# Altium footprint library fuse.pcblib: 12 footprints
Each footprint in its own frame and in the unit in brackets; x right, y up, seen from the top. Pads: shape width x height; smd on the part's side, far side on the other; paste and mask are expansions set on the pad; w line width, h text height; cw(c..) or ccw(c..) is an arc to the next point about the centre after c.
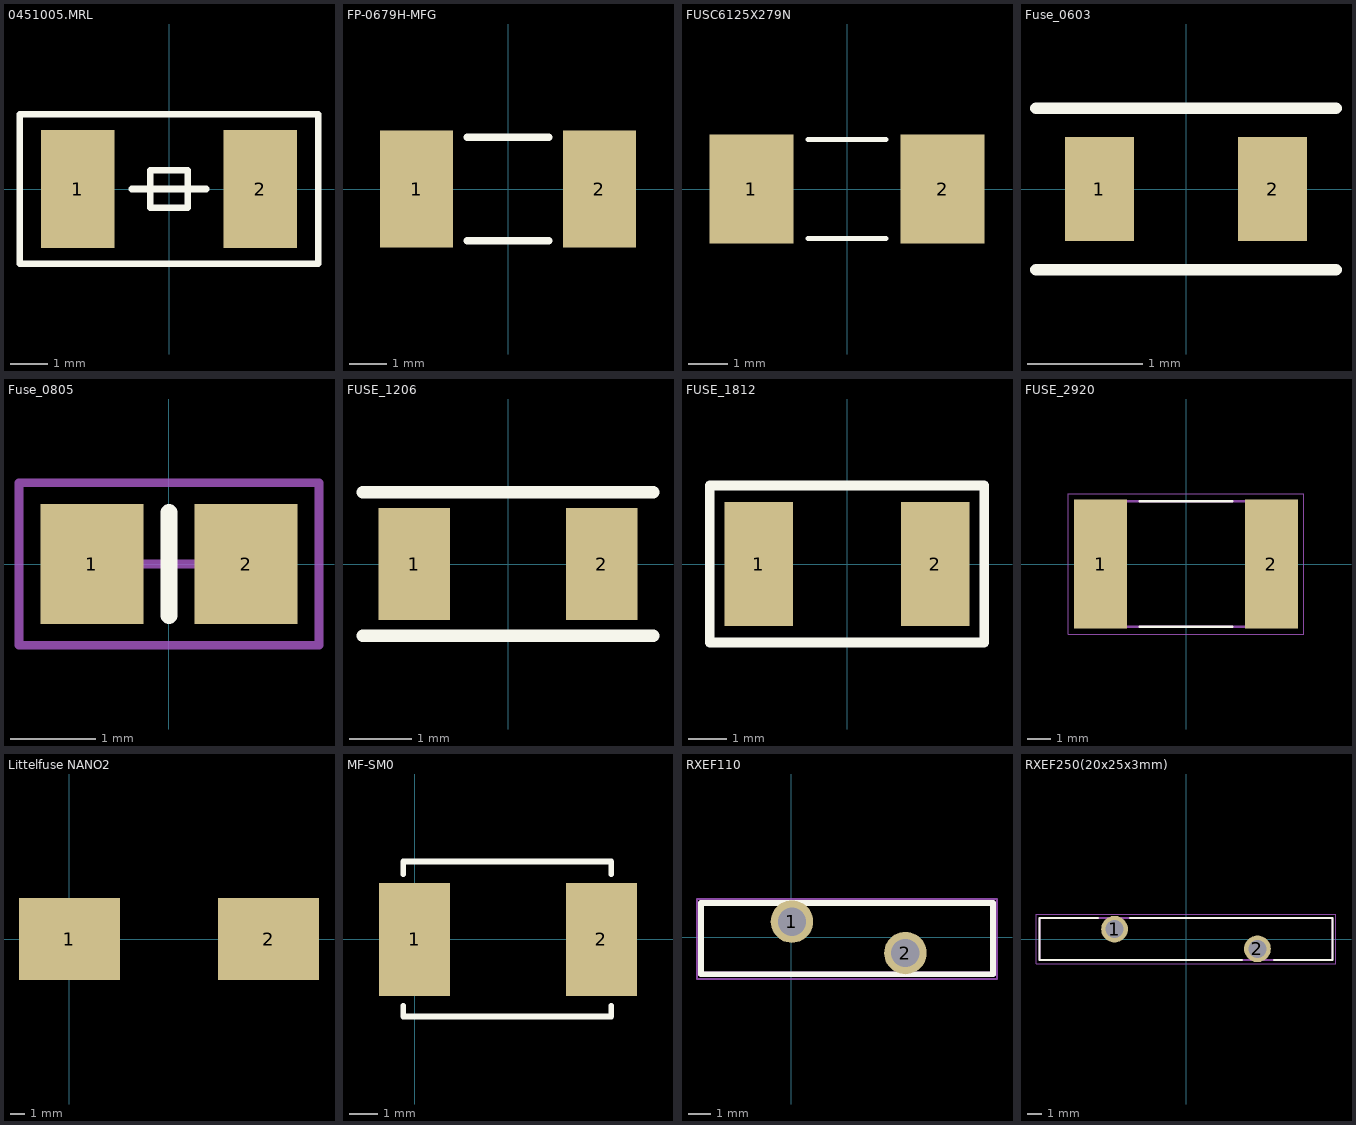
[diagram p0: the footprints below, top view; thin cyan lines are the x and y axes]

## 0451005.MRL [mm] "Fuse"
height 2
pads (2):
  rect 1.96x3.15 smd: 1(-2.445,0) 2(2.445,0)
Top Overlay:
  lines w0.18: -1,0 -0.5,0 ; 1,0 0.5,0 -0.5,0 ; -0.5,0 -0.5,0.5 0.5,0.5 0.5,-0.5 -0.5,-0.5 -0.5,0 ; -4,-2 4,-2 4,2 -4,2 -4,-2
3D body "User Library-FUSE_NANO2.step": height 2.7, standoff 0, extent -3.05,-1.35 3.05,1.35

## FP-0679H-MFG [mm]
pads (2):
  rect 1.96x3.15 smd paste+0 mask+0: 1(-2.455,0) 2(2.455,0)
Top Overlay:
  lines w0.2: -1.1,-1.395 1.1,-1.395 ; -1.1,1.395 1.1,1.395
3D body "Fuse_Bel_Fuse_0679H0250-05_eec.STEP": height 0.25, standoff 0, extent -3.535,-1.675 3.535,1.675

## FUSC6125X279N [mm]
pads (2):
  rect 2.15x2.8 smd: 1(-2.455,0) 2(2.455,0)
Top Overlay:
  lines w0.127: -1,-1.27 1,-1.27 ; -1,1.27 1,1.27
3D body "0679H0250-01--3DModel-STEP-56544.STEP": height 2.57, standoff 0.03, extent -3.05,-1.4 3.05,1.39

## Fuse_0603 [mm]
height 2
pads (2):
  rect 0.6x0.9 smd: 1(-0.75,0) 2(0.75,0)
Top Overlay:
  lines w0.1: -1.3,-0.7 1.3,-0.7 ; -1.3,0.7 1.3,0.7
3D body "User Library-ptc06032-1.step": height 0.75, standoff 0, extent -0.8,-0.375 0.8,0.375

## Fuse_0805 [mm]
height 2
pads (2):
  rect 1.2x1.4 smd: 1(-0.9,0) 2(0.9,0)
Top Overlay:
  lines w0.2: 0,-0.6 0,0.6
Board3D:
  lines w0.1: -0.5,0 0.5,0 ; 0,-0.5 0,0.5 ; -1.75,-0.95 1.75,-0.95 1.75,0.95 -1.75,0.95 -1.75,-0.95
3D body: height 0.7, standoff 0, extent -1.075,-0.7 1.075,0.7

## FUSE_1206 [mm]
height 3.048
pads (2):
  rect 1.15x1.8 smd: 1(-1.5,0) 2(1.5,0)
Top Overlay:
  lines w0.2: -2.325,-1.15 2.325,-1.15 ; -2.325,1.15 2.325,1.15
3D body "User Library-Litttlefuse 1206.step": height 0.6, standoff 0, extent -1.599,-0.826 1.603,0.826

## FUSE_1812 [mil]
height 59.06
pads (2):
  rect 70x126 smd: 1(-90,0) 2(90,0)
Top Overlay:
  lines w10: -140,-80 -140,80 140,80 140,-80 -140,-80
3D body "fuse1812.step": height 51.97, standoff 0, extent -94.88,-63.38 94.89,63.39

## FUSE_2920 [mm]
pads (2):
  rect 2.3x5.6 smd: 1(-3.7,0) 2(3.7,0)
Top Overlay:
  lines w0.127: -2,-2.72 2,-2.72 ; -2,2.72 2,2.72
Plata3D:
  lines w0.127: -3.99,-2.72 -3.99,2.72 3.99,2.72 3.99,-2.72 -3.99,-2.72
Board3D:
  lines w0.05: -5.1,-3.05 5.1,-3.05 5.1,3.05 -5.1,3.05 -5.1,-3.05
3D body "User Library-Fuse 2920.step": height 0.91, standoff 0.01, extent -3.68,-2.56 3.68,2.56

## Littelfuse NANO2 [mm] "Fuse"
height 2
pads (2):
  rect 6.9x5.6 smd: 1(0,0) 2(13.6,0)

## MF-SM0 [mm]
pads (2):
  rect 2.5x4 smd: 1(0,0) 2(6.6,0)
Top Overlay:
  lines w0.2: -0.4,-2.35 -0.4,-2.725 6.95,-2.725 6.95,-2.35 ; -0.4,2.3 -0.4,2.75 6.95,2.75 6.95,2.3
3D body "mf-sm075.SLDPRT": height 3.19, standoff 0.01, extent -0.377,-2.72 6.978,2.72

## RXEF110 [mm]
pads (2):
  round 1.894 hole 1.263: 1(0.025,0.7) 2(5.075,-0.7)
Top Overlay:
  lines w0.254: -4.025,-1.65 8.975,-1.65 8.975,1.525 -4.025,1.525 -4.025,-1.65
Board:
  lines w0.254: -4.025,-1.65 8.975,-1.65 8.975,1.525 -4.025,1.525 -4.025,-1.65
Board3D:
  lines w0.1: -4.2,-1.85 9.15,-1.85 9.15,1.7 -4.2,1.7 -4.2,-1.85
3D body "User Library-PTC_Fuse_Radial13mm_p5mm.step": height 18.26, standoff -3.24, extent -4.047,-1.608 8.953,1.492

## RXEF250(20x25x3mm) [mm]
pads (2):
  round 1.894 hole 1.263: 1(-5.075,0.7) 2(5.075,-0.7)
Top Overlay:
  lines w0.127: -6.25,1.5 -10.4,1.5 -10.4,-1.5 4,-1.5 ; -4,1.5 10.4,1.5 10.4,-1.5 6.25,-1.5
Plata3D:
  lines w0.127: -10.4,-1.5 -10.4,1.5 10.4,1.5 10.4,-1.5 -10.4,-1.5
Board3D:
  lines w0.05: -10.65,-1.75 -10.65,1.75 10.65,1.75 10.65,-1.75 -10.65,-1.75
3D body "step_temp.STEP": height 25.4, standoff -7.6, extent -10.4,-1.5 10.4,1.5